# Altium footprint library ESP12_PcbLib.PcbLib: 17 footprints (part 2 of 2)
Each footprint in its own frame and in the unit in brackets; x right, y up, seen from the top. Pads: shape width x height; smd on the part's side, far side on the other; paste and mask are expansions set on the pad; w line width, h text height; cw(c..) or ccw(c..) is an arc to the next point about the centre after c.
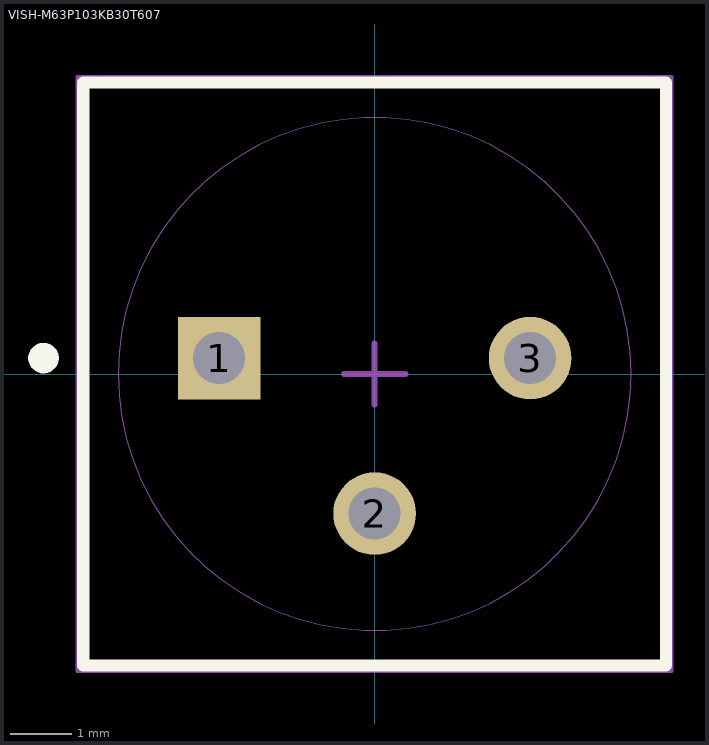
[diagram p1: the footprint, top view; thin cyan lines are the x and y axes]

## VISH-M63P103KB30T607 [mm] "THD, 3-Leads, Body 9.52x9.52mm, Pitch 2.54mm"
height 10.91
pads (3):
  rect 1.35x1.35 hole 0.85: 1(-2.54,0.26)
  round 1.35 hole 0.85: 2(0,-2.28) 3(2.54,0.26)
Top Overlay:
  circle w0.25: c-5.41,0.26 r0.125
  lines w0.2: -4.76,-4.76 4.76,-4.76 4.76,4.76 -4.76,4.76 -4.76,-4.76
Mechanical 13:
  circle w0: c0,0 r4.19
  lines w0.1: -4.76,-4.76 -4.76,4.76 4.76,4.76 4.76,-4.76 -4.76,-4.76
Mechanical 15:
  lines w0.05: -4.86,-4.86 -4.86,4.86 4.86,4.86 4.86,-4.86 -4.86,-4.86
  lines w0.1: -0.5,0 0.5,0 ; 0,-0.5 0,0.5
3D body: height 4.83, standoff 0.25, extent -4.76,-4.76 4.76,4.76
3D body: height 10.91, standoff 4.83, extent -4.19,-4.189 4.189,4.19